# EAGLE library part IQS228AS (library talons)
IQS228AS - Single Channel Capacitive Proximity/Touch Sensor Product page <http://www.azoteq.com/products/proxsense/3-products/products/139-products-proxsense-iqs228as.html> Datasheet <http://www.azoteq.com/images/stories/pdf/iqs228as_datasheet.pdf>
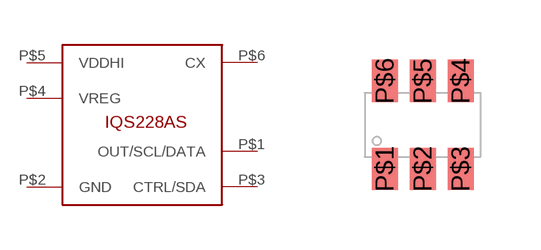
[diagram p6: symbol with the pads of TSOT23-6; footprint TSOT23-6]

Designator prefix -

## IQS228AS  [TSOT23-6]
P$1  OUT/SCL/DATA  out
P$2  GND  pwr
P$3  CTRL/SDA
P$4  VREG  pwr
P$5  VDDHI  pwr
P$6  CX

## Footprint TSOT23-6 (pad centres in mm)
smd 0.65 x 1.06: P$1 -0.95,-1.1; P$2 0,-1.1; P$3 0.95,-1.1; P$4 0.95,1.1; P$5 0,1.1; P$6 -0.95,1.1